# Altium integrated library NSC MiscPower.IntLib: 1417 symbols (part 32 of 39)
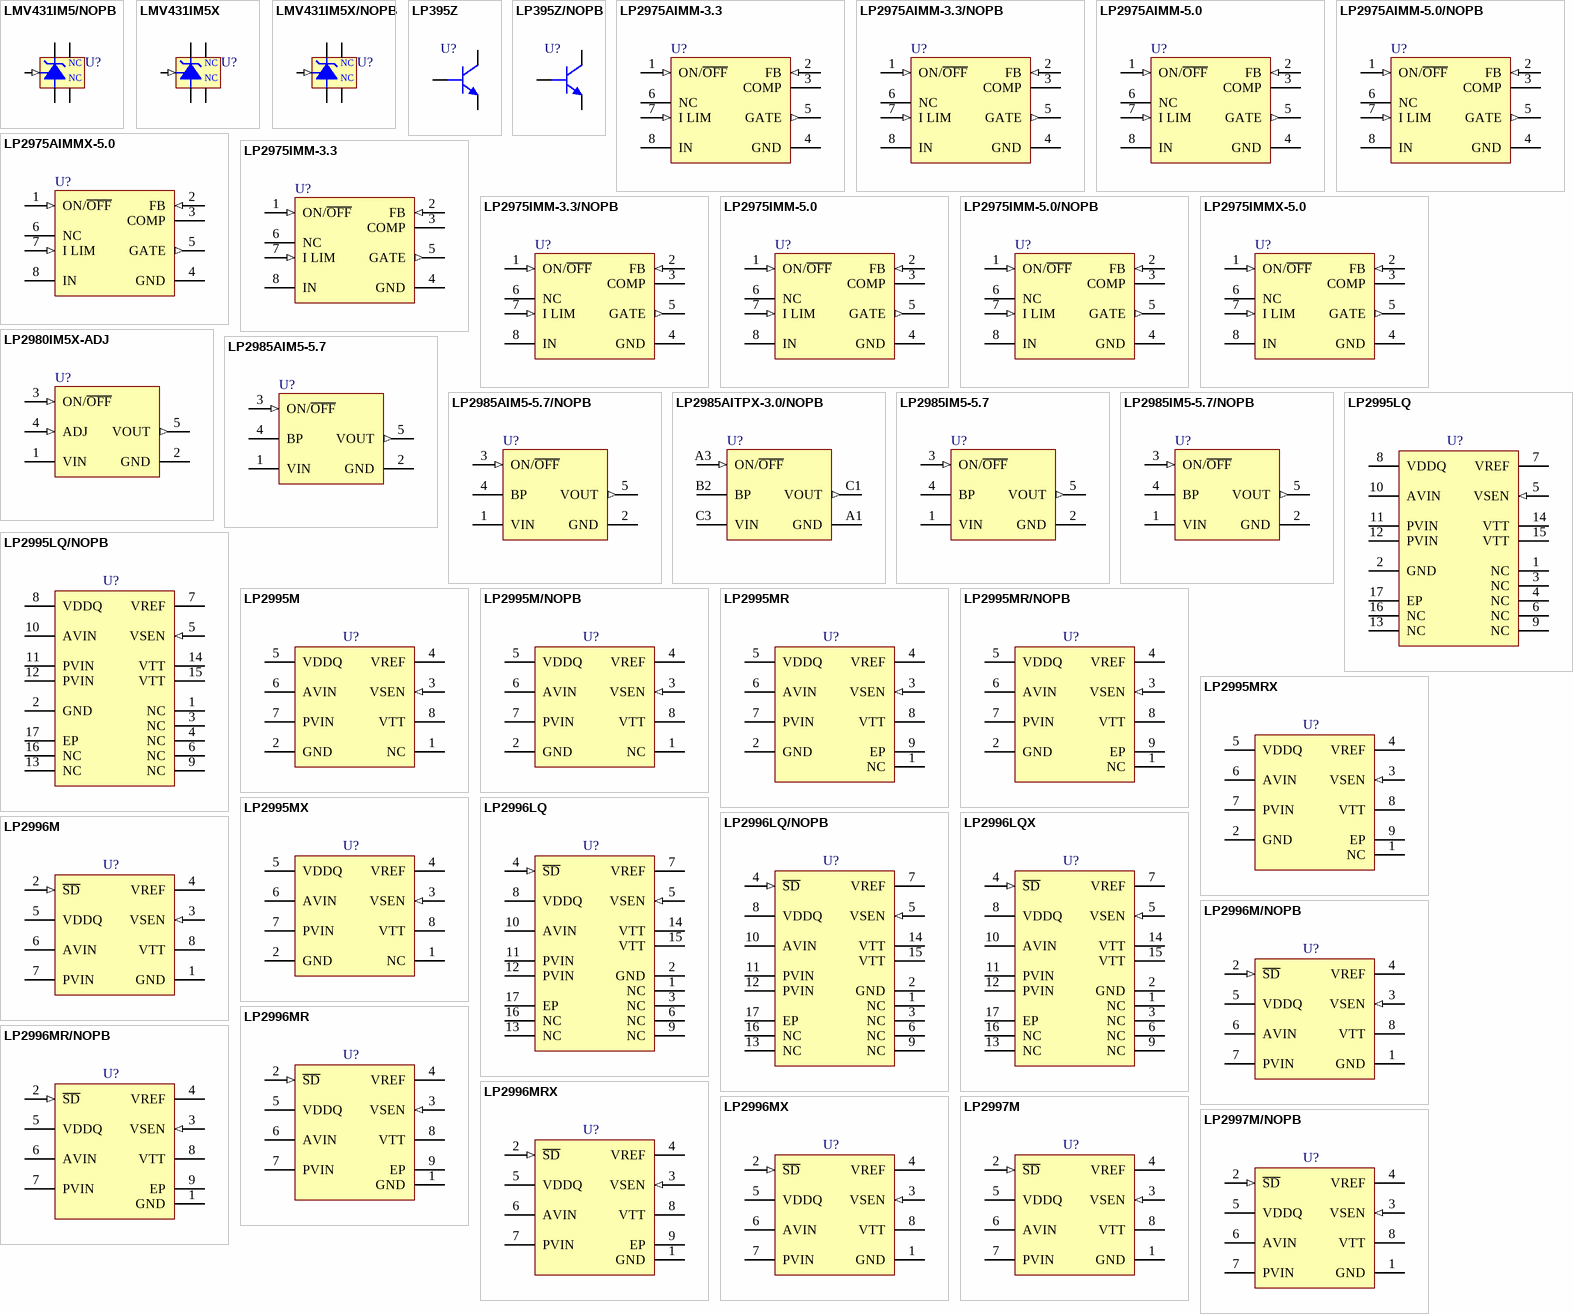
[diagram p82: symbols LMV431IM5/NOPB to LP2997M/NOPB]

## LP2996LQ
designator U?
DDR Termination Regulator, 16-pin LLP; PartNumber: LP2996LQ; Manufacturer: National Semiconductor; PackageTopMarking: NS*UZXYTT*L00006B; PowerWise: N; CompType: MiscPower; Published: 4-Dec-2008; DatasheetVersion: Apr-2009; PackageVersion: revA, Apr-2000; PackageReference: LQA16A; Publisher: Altium Limited; PackageDescription: LLP, Plastic, Quad, 4 x 4 x 0.75mm Body, 16 Lead, 0.5mm Pitch; Supplier 1: Farnell; Supplier Part Number 1: 1312853; RoHS: N; PinCount: 16; ComponentLink1Description: LP2996 Datasheet; ComponentLink1URL: http://www.national.com/ds/LP/LP2996.pdf; ComponentLink2Description: LP2996 Web Page; ComponentLink2URL: http://www.national.com/pf/LP/LP2996.html; ComponentLink3Description: LQA16A Package Page; ComponentLink3URL: http://www.national.com/packaging/folders/lqa16a.html
footprint LQA16A (QFN, 16-Leads, Body 4x4mm, Pitch 0.5mm, NSC Recommended)
pins: 1 NC, 2 GND (power), 3 NC, 4 ~{SD} (in), 5 VSEN (in), 6 NC, 7 VREF, 8 VDDQ (power), 9 NC, 10 AVIN (power), 11 PVIN (power), 12 PVIN (power), 13 NC, 14 VTT (power), 15 VTT (power), 16 NC, 17 EP (power)

## LP2996LQ/NOPB
designator U?
DDR Termination Regulator, 16-pin LLP, Pb-Free; PartNumber: LP2996LQ/NOPB; Manufacturer: National Semiconductor; PackageTopMarking: NS*UZXYTT*L00006B; PowerWise: N; CompType: MiscPower; Published: 1-Mar-2010; DatasheetVersion: Apr-2009; PackageVersion: revA, Apr-2000; PackageReference: LQA16A; Publisher: Altium Limited; PackageDescription: LLP, Plastic, Quad, 4 x 4 x 0.75mm Body, 16 Lead, 0.5mm Pitch; Supplier 1: Digi-Key; Supplier Part Number 1: LP2996LQTR-ND; Supplier 2: Digi-Key; Supplier Part Number 2: LP2996LQCT-ND; Supplier 3: Digi-Key; Supplier Part Number 3: LP2996LQDKR-ND; Supplier 4: Farnell; Supplier Part Number 4: 1559602; RoHS: Y; PinCount: 16; ComponentLink1Description: LP2996 Datasheet; ComponentLink1URL: http://www.national.com/ds/LP/LP2996.pdf; ComponentLink2Description: LP2996 Web Page; ComponentLink2URL: http://www.national.com/pf/LP/LP2996.html; ComponentLink3Description: LQA16A Package Page; ComponentLink3URL: http://www.national.com/packaging/folders/lqa16a.html
footprint LQA16A (QFN, 16-Leads, Body 4x4mm, Pitch 0.5mm, NSC Recommended)
pins: 1 NC, 2 GND (power), 3 NC, 4 ~{SD} (in), 5 VSEN (in), 6 NC, 7 VREF, 8 VDDQ (power), 9 NC, 10 AVIN (power), 11 PVIN (power), 12 PVIN (power), 13 NC, 14 VTT (power), 15 VTT (power), 16 NC, 17 EP (power)

## LP2996LQX
designator U?
DDR Termination Regulator, 16-pin LLP; PartNumber: LP2996LQX; Manufacturer: National Semiconductor; PackageTopMarking: NS*UZXYTT*L00006B; PowerWise: N; CompType: MiscPower; Published: 1-Mar-2010; DatasheetVersion: Apr-2009; PackageVersion: revA, Apr-2000; PackageReference: LQA16A; Publisher: Altium Limited; PackageDescription: LLP, Plastic, Quad, 4 x 4 x 0.75mm Body, 16 Lead, 0.5mm Pitch; RoHS: N; PinCount: 16; ComponentLink1Description: LP2996 Datasheet; ComponentLink1URL: http://www.national.com/ds/LP/LP2996.pdf; ComponentLink2Description: LP2996 Web Page; ComponentLink2URL: http://www.national.com/pf/LP/LP2996.html; ComponentLink3Description: LQA16A Package Page; ComponentLink3URL: http://www.national.com/packaging/folders/lqa16a.html
footprint LQA16A (QFN, 16-Leads, Body 4x4mm, Pitch 0.5mm, NSC Recommended)
pins: 1 NC, 2 GND (power), 3 NC, 4 ~{SD} (in), 5 VSEN (in), 6 NC, 7 VREF, 8 VDDQ (power), 9 NC, 10 AVIN (power), 11 PVIN (power), 12 PVIN (power), 13 NC, 14 VTT (power), 15 VTT (power), 16 NC, 17 EP (power)

## LP2996M
designator U?
DDR Termination Regulator, 8-pin Narrow SOIC; PartNumber: LP2996M; Manufacturer: National Semiconductor; PackageTopMarking: NSZXTT*2996M; PowerWise: N; CompType: MiscPower; Published: 4-Dec-2008; DatasheetVersion: Apr-2009; PackageVersion: revM, May-2009; PackageReference: M08A; Publisher: Altium Limited; PackageDescription: SOIC Narrow, 4.9 x 3.9 x 1.45mm, 8 Lead, 1.27mm Pitch; Supplier 1: Farnell; Supplier Part Number 1: 1286960; RoHS: N; PinCount: 8; Code_JEDEC: MS-012-AA; Code_IPC: SOIC127P600-8; ComponentLink1Description: LP2996 Datasheet; ComponentLink1URL: http://www.national.com/ds/LP/LP2996.pdf; ComponentLink2Description: LP2996 Web Page; ComponentLink2URL: http://www.national.com/pf/LP/LP2996.html; ComponentLink3Description: M08A Package Page; ComponentLink3URL: http://www.national.com/packaging/folders/m08a.html
footprint M08A_N (SOIC, 8-Leads, Body 4.9x3.9mm, Pitch 1.27mm, IPC Medium Density)
footprint M08A_L (SOIC, 8-Leads, Body 4.9x3.9mm, Pitch 1.27mm, IPC High Density)
footprint M08A_M (SOIC, 8-Leads, Body 4.9x3.9mm, Pitch 1.27mm, IPC Low Density)
pins: 1 GND (power), 2 ~{SD} (in), 3 VSEN (in), 4 VREF, 5 VDDQ (power), 6 AVIN (power), 7 PVIN (power), 8 VTT (power)

## LP2996M/NOPB
designator U?
DDR Termination Regulator, 8-pin Narrow SOIC, Pb-Free; PartNumber: LP2996M/NOPB; Manufacturer: National Semiconductor; PackageTopMarking: NSZXTT*2996M; PowerWise: N; CompType: MiscPower; Published: 1-Mar-2010; DatasheetVersion: Apr-2009; PackageVersion: revM, May-2009; PackageReference: M08A; Publisher: Altium Limited; PackageDescription: SOIC Narrow, 4.9 x 3.9 x 1.45mm, 8 Lead, 1.27mm Pitch; Supplier 1: Digi-Key; Supplier Part Number 1: LP2996M-ND; RoHS: Y; PinCount: 8; Code_JEDEC: MS-012-AA; Code_IPC: SOIC127P600-8; ComponentLink1Description: LP2996 Datasheet; ComponentLink1URL: http://www.national.com/ds/LP/LP2996.pdf; ComponentLink2Description: LP2996 Web Page; ComponentLink2URL: http://www.national.com/pf/LP/LP2996.html; ComponentLink3Description: M08A Package Page; ComponentLink3URL: http://www.national.com/packaging/folders/m08a.html
footprint M08A_N (SOIC, 8-Leads, Body 4.9x3.9mm, Pitch 1.27mm, IPC Medium Density)
footprint M08A_L (SOIC, 8-Leads, Body 4.9x3.9mm, Pitch 1.27mm, IPC High Density)
footprint M08A_M (SOIC, 8-Leads, Body 4.9x3.9mm, Pitch 1.27mm, IPC Low Density)
pins: 1 GND (power), 2 ~{SD} (in), 3 VSEN (in), 4 VREF, 5 VDDQ (power), 6 AVIN (power), 7 PVIN (power), 8 VTT (power)

## LP2996MR
designator U?
DDR Termination Regulator, 8-pin PSOP; PartNumber: LP2996MR; Manufacturer: National Semiconductor; PackageTopMarking: NSXYTT*LP2996; PowerWise: N; CompType: MiscPower; Published: 4-Dec-2008; DatasheetVersion: Apr-2009; PackageVersion: revD, Dec-2007; PackageReference: MRA08A; Publisher: Altium Limited; PackageDescription: Molded, PSOP .193 x .154 x .058in, 8 Lead, .050in Pitch; Supplier 1: Farnell; Supplier Part Number 1: 7611560; RoHS: N; PinCount: 8; Code_JEDEC: MS-012-AA; ComponentLink1Description: LP2996 Datasheet; ComponentLink1URL: http://www.national.com/ds/LP/LP2996.pdf; ComponentLink2Description: LP2996 Web Page; ComponentLink2URL: http://www.national.com/pf/LP/LP2996.html; ComponentLink3Description: MRA08A Package Page; ComponentLink3URL: http://www.national.com/packaging/folders/mra08a.html
footprint MRA08A_N (SOIC, 8-Leads, Body 4.9x3.9mm, Pitch 1.27mm, Exposed Pad, IPC Medium Density)
footprint MRA08A_L (SOIC, 8-Leads, Body 4.9x3.9mm, Pitch 1.27mm, Exposed Pad, IPC High Density)
footprint MRA08A_M (SOIC, 8-Leads, Body 4.9x3.9mm, Pitch 1.27mm, Exposed Pad, IPC Low Density)
pins: 1 GND (power), 2 ~{SD} (in), 3 VSEN (in), 4 VREF, 5 VDDQ (power), 6 AVIN (power), 7 PVIN (power), 8 VTT (power), 9 EP (power)

## LP2996MR/NOPB
designator U?
DDR Termination Regulator, 8-pin PSOP, Pb-Free; PartNumber: LP2996MR/NOPB; Manufacturer: National Semiconductor; PackageTopMarking: NSXYTT*LP2996; PowerWise: N; CompType: MiscPower; Published: 1-Mar-2010; DatasheetVersion: Apr-2009; PackageVersion: revD, Dec-2007; PackageReference: MRA08A; Publisher: Altium Limited; PackageDescription: Molded, PSOP .193 x .154 x .058in, 8 Lead, .050in Pitch; Supplier 1: Digi-Key; Supplier Part Number 1: LP2996MR-ND; RoHS: Y; PinCount: 8; Code_JEDEC: MS-012-AA; ComponentLink1Description: LP2996 Datasheet; ComponentLink1URL: http://www.national.com/ds/LP/LP2996.pdf; ComponentLink2Description: LP2996 Web Page; ComponentLink2URL: http://www.national.com/pf/LP/LP2996.html; ComponentLink3Description: MRA08A Package Page; ComponentLink3URL: http://www.national.com/packaging/folders/mra08a.html
footprint MRA08A_N (SOIC, 8-Leads, Body 4.9x3.9mm, Pitch 1.27mm, Exposed Pad, IPC Medium Density)
footprint MRA08A_L (SOIC, 8-Leads, Body 4.9x3.9mm, Pitch 1.27mm, Exposed Pad, IPC High Density)
footprint MRA08A_M (SOIC, 8-Leads, Body 4.9x3.9mm, Pitch 1.27mm, Exposed Pad, IPC Low Density)
pins: 1 GND (power), 2 ~{SD} (in), 3 VSEN (in), 4 VREF, 5 VDDQ (power), 6 AVIN (power), 7 PVIN (power), 8 VTT (power), 9 EP (power)

## LP2996MRX
designator U?
DDR Termination Regulator, 8-pin PSOP; PartNumber: LP2996MRX; Manufacturer: National Semiconductor; PackageTopMarking: NSXYTT*LP2996; PowerWise: N; CompType: MiscPower; Published: 1-Mar-2010; DatasheetVersion: Apr-2009; PackageVersion: revD, Dec-2007; PackageReference: MRA08A; Publisher: Altium Limited; PackageDescription: Molded, PSOP .193 x .154 x .058in, 8 Lead, .050in Pitch; RoHS: N; PinCount: 8; Code_JEDEC: MS-012-AA; ComponentLink1Description: LP2996 Datasheet; ComponentLink1URL: http://www.national.com/ds/LP/LP2996.pdf; ComponentLink2Description: LP2996 Web Page; ComponentLink2URL: http://www.national.com/pf/LP/LP2996.html; ComponentLink3Description: MRA08A Package Page; ComponentLink3URL: http://www.national.com/packaging/folders/mra08a.html
footprint MRA08A_N (SOIC, 8-Leads, Body 4.9x3.9mm, Pitch 1.27mm, Exposed Pad, IPC Medium Density)
footprint MRA08A_L (SOIC, 8-Leads, Body 4.9x3.9mm, Pitch 1.27mm, Exposed Pad, IPC High Density)
footprint MRA08A_M (SOIC, 8-Leads, Body 4.9x3.9mm, Pitch 1.27mm, Exposed Pad, IPC Low Density)
pins: 1 GND (power), 2 ~{SD} (in), 3 VSEN (in), 4 VREF, 5 VDDQ (power), 6 AVIN (power), 7 PVIN (power), 8 VTT (power), 9 EP (power)

## LP2996MX
designator U?
DDR Termination Regulator, 8-pin Narrow SOIC; PartNumber: LP2996MX; Manufacturer: National Semiconductor; PackageTopMarking: NSZXTT*2996M; PowerWise: N; CompType: MiscPower; Published: 1-Mar-2010; DatasheetVersion: Apr-2009; PackageVersion: revM, May-2009; PackageReference: M08A; Publisher: Altium Limited; PackageDescription: SOIC Narrow, 4.9 x 3.9 x 1.45mm, 8 Lead, 1.27mm Pitch; RoHS: N; PinCount: 8; Code_JEDEC: MS-012-AA; Code_IPC: SOIC127P600-8; ComponentLink1Description: LP2996 Datasheet; ComponentLink1URL: http://www.national.com/ds/LP/LP2996.pdf; ComponentLink2Description: LP2996 Web Page; ComponentLink2URL: http://www.national.com/pf/LP/LP2996.html; ComponentLink3Description: M08A Package Page; ComponentLink3URL: http://www.national.com/packaging/folders/m08a.html
footprint M08A_N (SOIC, 8-Leads, Body 4.9x3.9mm, Pitch 1.27mm, IPC Medium Density)
footprint M08A_L (SOIC, 8-Leads, Body 4.9x3.9mm, Pitch 1.27mm, IPC High Density)
footprint M08A_M (SOIC, 8-Leads, Body 4.9x3.9mm, Pitch 1.27mm, IPC Low Density)
pins: 1 GND (power), 2 ~{SD} (in), 3 VSEN (in), 4 VREF, 5 VDDQ (power), 6 AVIN (power), 7 PVIN (power), 8 VTT (power)

## LP2997M
designator U?
DDR-II Termination Regulator, 8-pin Narrow SOIC; PartNumber: LP2997M; Manufacturer: National Semiconductor; PackageTopMarking: NSZXTT*L2997*M; PowerWise: N; CompType: MiscPower; Published: 4-Dec-2008; DatasheetVersion: Jun-2006; PackageVersion: revM, May-2009; PackageReference: M08A; Publisher: Altium Limited; PackageDescription: SOIC Narrow, 4.9 x 3.9 x 1.45mm, 8 Lead, 1.27mm Pitch; Supplier 1: Farnell; Supplier Part Number 1: 1008283; RoHS: N; PinCount: 8; Code_JEDEC: MS-012-AA; Code_IPC: SOIC127P600-8; ComponentLink1Description: LP2997 Datasheet; ComponentLink1URL: http://www.national.com/ds/LP/LP2997.pdf; ComponentLink2Description: LP2997 Web Page; ComponentLink2URL: http://www.national.com/pf/LP/LP2997.html; ComponentLink3Description: M08A Package Page; ComponentLink3URL: http://www.national.com/packaging/folders/m08a.html
footprint M08A_N (SOIC, 8-Leads, Body 4.9x3.9mm, Pitch 1.27mm, IPC Medium Density)
footprint M08A_L (SOIC, 8-Leads, Body 4.9x3.9mm, Pitch 1.27mm, IPC High Density)
footprint M08A_M (SOIC, 8-Leads, Body 4.9x3.9mm, Pitch 1.27mm, IPC Low Density)
pins: 1 GND (power), 2 ~{SD} (in), 3 VSEN (in), 4 VREF, 5 VDDQ (power), 6 AVIN (power), 7 PVIN (power), 8 VTT (power)

## LP2997M/NOPB
designator U?
DDR-II Termination Regulator, 8-pin Narrow SOIC, Pb-Free; PartNumber: LP2997M/NOPB; Manufacturer: National Semiconductor; PackageTopMarking: NSZXTT*L2997*M; PowerWise: N; CompType: MiscPower; Published: 1-Mar-2010; DatasheetVersion: Jun-2006; PackageVersion: revM, May-2009; PackageReference: M08A; Publisher: Altium Limited; PackageDescription: SOIC Narrow, 4.9 x 3.9 x 1.45mm, 8 Lead, 1.27mm Pitch; Supplier 1: Digi-Key; Supplier Part Number 1: LP2997M-ND; Supplier 2: Farnell; Supplier Part Number 2: 1559603; RoHS: Y; PinCount: 8; Code_JEDEC: MS-012-AA; Code_IPC: SOIC127P600-8; ComponentLink1Description: LP2997 Datasheet; ComponentLink1URL: http://www.national.com/ds/LP/LP2997.pdf; ComponentLink2Description: LP2997 Web Page; ComponentLink2URL: http://www.national.com/pf/LP/LP2997.html; ComponentLink3Description: M08A Package Page; ComponentLink3URL: http://www.national.com/packaging/folders/m08a.html
footprint M08A_N (SOIC, 8-Leads, Body 4.9x3.9mm, Pitch 1.27mm, IPC Medium Density)
footprint M08A_L (SOIC, 8-Leads, Body 4.9x3.9mm, Pitch 1.27mm, IPC High Density)
footprint M08A_M (SOIC, 8-Leads, Body 4.9x3.9mm, Pitch 1.27mm, IPC Low Density)
pins: 1 GND (power), 2 ~{SD} (in), 3 VSEN (in), 4 VREF, 5 VDDQ (power), 6 AVIN (power), 7 PVIN (power), 8 VTT (power)

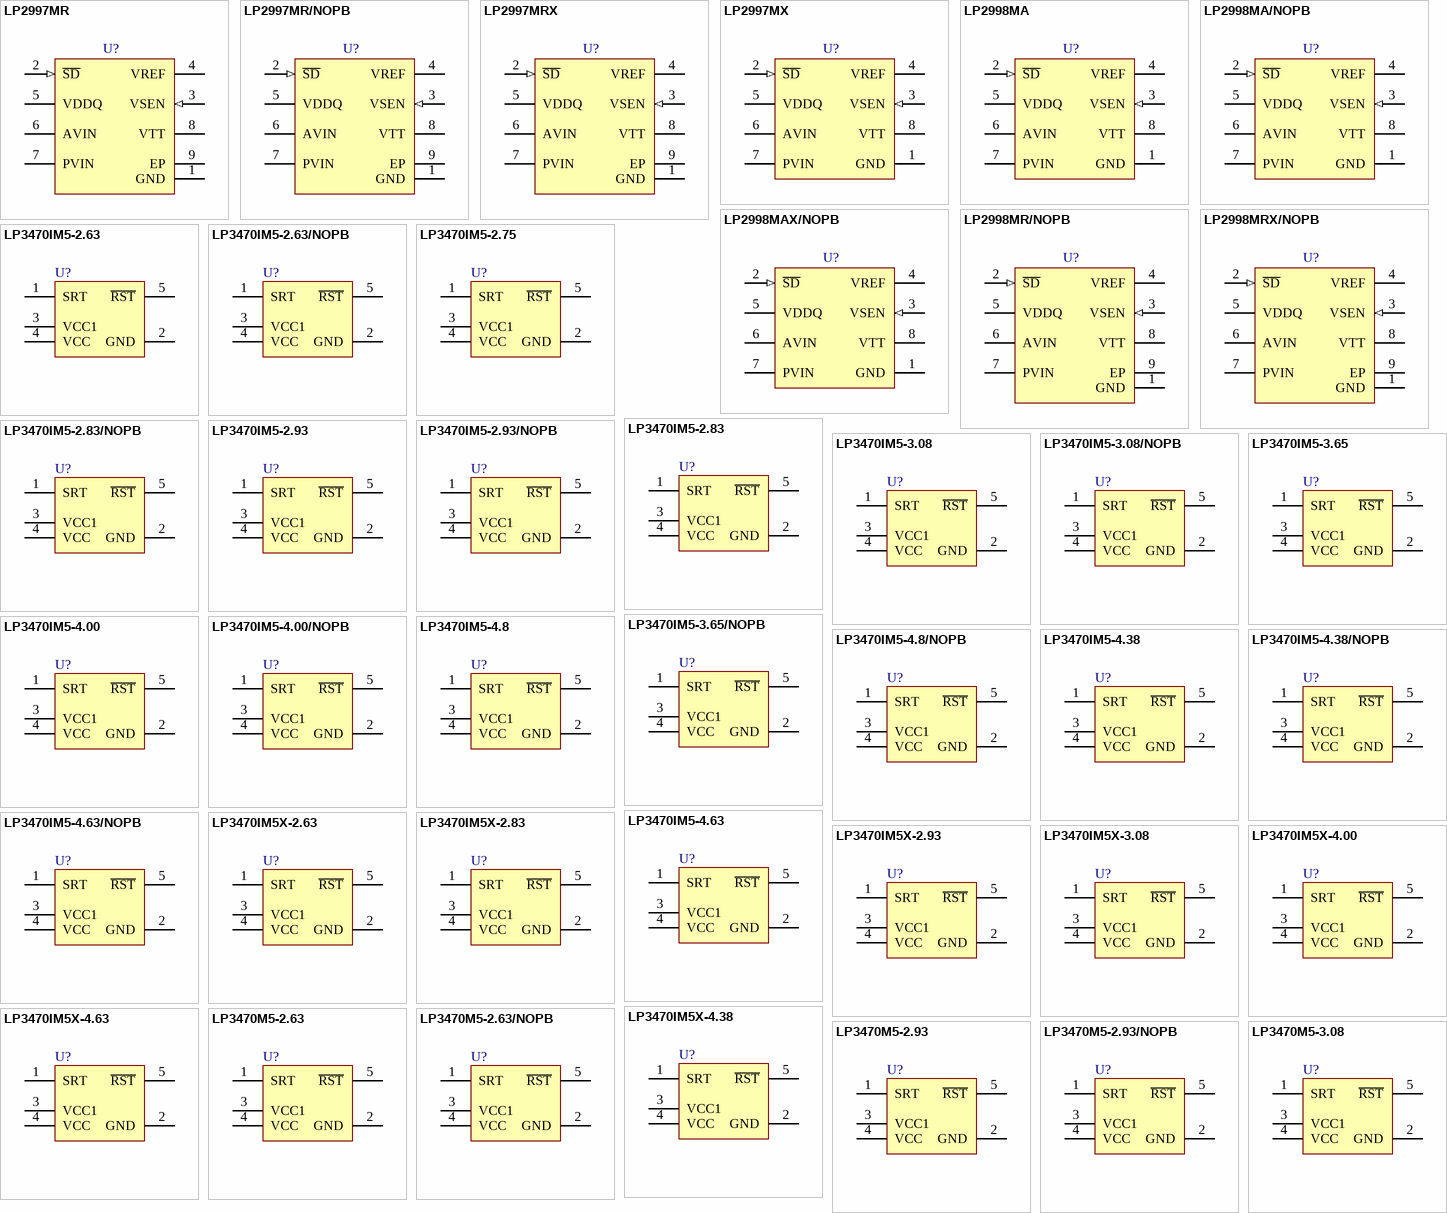
[diagram p35: symbols LP2997MR to LP3470M5-3.08]

## LP2997MR
designator U?
DDR-II Termination Regulator, 8-pin PSOP; PartNumber: LP2997MR; Manufacturer: National Semiconductor; PackageTopMarking: NSXYTT*L2997*MR; PowerWise: N; CompType: MiscPower; Published: 4-Dec-2008; DatasheetVersion: Jun-2006; PackageVersion: revD, Dec-2007; PackageReference: MRA08A; Publisher: Altium Limited; PackageDescription: Molded, PSOP .193 x .154 x .058in, 8 Lead, .050in Pitch; Supplier 1: Farnell; Supplier Part Number 1: 1286963; RoHS: N; PinCount: 8; Code_JEDEC: MS-012-AA; ComponentLink1Description: LP2997 Datasheet; ComponentLink1URL: http://www.national.com/ds/LP/LP2997.pdf; ComponentLink2Description: LP2997 Web Page; ComponentLink2URL: http://www.national.com/pf/LP/LP2997.html; ComponentLink3Description: MRA08A Package Page; ComponentLink3URL: http://www.national.com/packaging/folders/mra08a.html
footprint MRA08A_N (SOIC, 8-Leads, Body 4.9x3.9mm, Pitch 1.27mm, Exposed Pad, IPC Medium Density)
footprint MRA08A_L (SOIC, 8-Leads, Body 4.9x3.9mm, Pitch 1.27mm, Exposed Pad, IPC High Density)
footprint MRA08A_M (SOIC, 8-Leads, Body 4.9x3.9mm, Pitch 1.27mm, Exposed Pad, IPC Low Density)
pins: 1 GND (power), 2 ~{SD} (in), 3 VSEN (in), 4 VREF, 5 VDDQ (power), 6 AVIN (power), 7 PVIN (power), 8 VTT (power), 9 EP (power)

## LP2997MR/NOPB
designator U?
DDR-II Termination Regulator, 8-pin PSOP, Pb-Free; PartNumber: LP2997MR/NOPB; Manufacturer: National Semiconductor; PackageTopMarking: NSXYTT*L2997*MR; PowerWise: N; CompType: MiscPower; Published: 1-Mar-2010; DatasheetVersion: Jun-2006; PackageVersion: revD, Dec-2007; PackageReference: MRA08A; Publisher: Altium Limited; PackageDescription: Molded, PSOP .193 x .154 x .058in, 8 Lead, .050in Pitch; Supplier 1: Digi-Key; Supplier Part Number 1: LP2997MR-ND; RoHS: Y; PinCount: 8; Code_JEDEC: MS-012-AA; ComponentLink1Description: LP2997 Datasheet; ComponentLink1URL: http://www.national.com/ds/LP/LP2997.pdf; ComponentLink2Description: LP2997 Web Page; ComponentLink2URL: http://www.national.com/pf/LP/LP2997.html; ComponentLink3Description: MRA08A Package Page; ComponentLink3URL: http://www.national.com/packaging/folders/mra08a.html
footprint MRA08A_N (SOIC, 8-Leads, Body 4.9x3.9mm, Pitch 1.27mm, Exposed Pad, IPC Medium Density)
footprint MRA08A_L (SOIC, 8-Leads, Body 4.9x3.9mm, Pitch 1.27mm, Exposed Pad, IPC High Density)
footprint MRA08A_M (SOIC, 8-Leads, Body 4.9x3.9mm, Pitch 1.27mm, Exposed Pad, IPC Low Density)
pins: 1 GND (power), 2 ~{SD} (in), 3 VSEN (in), 4 VREF, 5 VDDQ (power), 6 AVIN (power), 7 PVIN (power), 8 VTT (power), 9 EP (power)

## LP2997MRX
designator U?
DDR-II Termination Regulator, 8-pin PSOP; PartNumber: LP2997MRX; Manufacturer: National Semiconductor; PackageTopMarking: NSXYTT*L2997*MR; PowerWise: N; CompType: MiscPower; Published: 1-Mar-2010; DatasheetVersion: Jun-2006; PackageVersion: revD, Dec-2007; PackageReference: MRA08A; Publisher: Altium Limited; PackageDescription: Molded, PSOP .193 x .154 x .058in, 8 Lead, .050in Pitch; RoHS: N; PinCount: 8; Code_JEDEC: MS-012-AA; ComponentLink1Description: LP2997 Datasheet; ComponentLink1URL: http://www.national.com/ds/LP/LP2997.pdf; ComponentLink2Description: LP2997 Web Page; ComponentLink2URL: http://www.national.com/pf/LP/LP2997.html; ComponentLink3Description: MRA08A Package Page; ComponentLink3URL: http://www.national.com/packaging/folders/mra08a.html
footprint MRA08A_N (SOIC, 8-Leads, Body 4.9x3.9mm, Pitch 1.27mm, Exposed Pad, IPC Medium Density)
footprint MRA08A_L (SOIC, 8-Leads, Body 4.9x3.9mm, Pitch 1.27mm, Exposed Pad, IPC High Density)
footprint MRA08A_M (SOIC, 8-Leads, Body 4.9x3.9mm, Pitch 1.27mm, Exposed Pad, IPC Low Density)
pins: 1 GND (power), 2 ~{SD} (in), 3 VSEN (in), 4 VREF, 5 VDDQ (power), 6 AVIN (power), 7 PVIN (power), 8 VTT (power), 9 EP (power)

## LP2997MX
designator U?
DDR-II Termination Regulator, 8-pin Narrow SOIC; PartNumber: LP2997MX; Manufacturer: National Semiconductor; PackageTopMarking: NSZXTT*L2997*M; PowerWise: N; CompType: MiscPower; Published: 1-Mar-2010; DatasheetVersion: Jun-2006; PackageVersion: revM, May-2009; PackageReference: M08A; Publisher: Altium Limited; PackageDescription: SOIC Narrow, 4.9 x 3.9 x 1.45mm, 8 Lead, 1.27mm Pitch; RoHS: N; PinCount: 8; Code_JEDEC: MS-012-AA; Code_IPC: SOIC127P600-8; ComponentLink1Description: LP2997 Datasheet; ComponentLink1URL: http://www.national.com/ds/LP/LP2997.pdf; ComponentLink2Description: LP2997 Web Page; ComponentLink2URL: http://www.national.com/pf/LP/LP2997.html; ComponentLink3Description: M08A Package Page; ComponentLink3URL: http://www.national.com/packaging/folders/m08a.html
footprint M08A_N (SOIC, 8-Leads, Body 4.9x3.9mm, Pitch 1.27mm, IPC Medium Density)
footprint M08A_L (SOIC, 8-Leads, Body 4.9x3.9mm, Pitch 1.27mm, IPC High Density)
footprint M08A_M (SOIC, 8-Leads, Body 4.9x3.9mm, Pitch 1.27mm, IPC Low Density)
pins: 1 GND (power), 2 ~{SD} (in), 3 VSEN (in), 4 VREF, 5 VDDQ (power), 6 AVIN (power), 7 PVIN (power), 8 VTT (power)

## LP2998MA
designator U?
DDR-II and DDR-I Termination Regulator, 8-pin Narrow SOIC; PartNumber: LP2998MA; Manufacturer: National Semiconductor; PackageTopMarking: NSZXTT*LP2998*MA; PowerWise: N; CompType: MiscPower; Published: 4-Dec-2008; DatasheetVersion: Dec-2009; PackageVersion: revM, May-2009; PackageReference: M08A; Publisher: Altium Limited; PackageDescription: SOIC Narrow, 4.9 x 3.9 x 1.45mm, 8 Lead, 1.27mm Pitch; Supplier 1: Farnell; Supplier Part Number 1: 1542532; RoHS: Y; PinCount: 8; Code_JEDEC: MS-012-AA; Code_IPC: SOIC127P600-8; ComponentLink1Description: LP2998 Datasheet; ComponentLink1URL: http://www.national.com/ds/LP/LP2998.pdf; ComponentLink2Description: LP2998 Web Page; ComponentLink2URL: http://www.national.com/pf/LP/LP2998.html; ComponentLink3Description: M08A Package Page; ComponentLink3URL: http://www.national.com/packaging/folders/m08a.html
footprint M08A_N (SOIC, 8-Leads, Body 4.9x3.9mm, Pitch 1.27mm, IPC Medium Density)
footprint M08A_L (SOIC, 8-Leads, Body 4.9x3.9mm, Pitch 1.27mm, IPC High Density)
footprint M08A_M (SOIC, 8-Leads, Body 4.9x3.9mm, Pitch 1.27mm, IPC Low Density)
pins: 1 GND (power), 2 ~{SD} (in), 3 VSEN (in), 4 VREF, 5 VDDQ (power), 6 AVIN (power), 7 PVIN (power), 8 VTT (power)

## LP2998MA/NOPB
designator U?
DDR-I and DDR-II Termination Regulator, 8-pin Narrow SOIC, Pb-Free; PartNumber: LP2998MA/NOPB; Manufacturer: National Semiconductor; PackageTopMarking: NSZXTT*LP2998*MA; PowerWise: N; CompType: MiscPower; Published: 1-Mar-2010; DatasheetVersion: Dec-2009; PackageVersion: revM, May-2009; PackageReference: M08A; Publisher: Altium Limited; PackageDescription: SOIC Narrow, 4.9 x 3.9 x 1.45mm, 8 Lead, 1.27mm Pitch; Supplier 1: Digi-Key; Supplier Part Number 1: LP2998MA-ND; Supplier 2: Farnell; Supplier Part Number 2: 1545595; RoHS: Y; PinCount: 8; Code_JEDEC: MS-012-AA; Code_IPC: SOIC127P600-8; ComponentLink1Description: LP2998 Datasheet; ComponentLink1URL: http://www.national.com/ds/LP/LP2998.pdf; ComponentLink2Description: LP2998 Web Page; ComponentLink2URL: http://www.national.com/pf/LP/LP2998.html; ComponentLink3Description: M08A Package Page; ComponentLink3URL: http://www.national.com/packaging/folders/m08a.html
footprint M08A_N (SOIC, 8-Leads, Body 4.9x3.9mm, Pitch 1.27mm, IPC Medium Density)
footprint M08A_L (SOIC, 8-Leads, Body 4.9x3.9mm, Pitch 1.27mm, IPC High Density)
footprint M08A_M (SOIC, 8-Leads, Body 4.9x3.9mm, Pitch 1.27mm, IPC Low Density)
pins: 1 GND (power), 2 ~{SD} (in), 3 VSEN (in), 4 VREF, 5 VDDQ (power), 6 AVIN (power), 7 PVIN (power), 8 VTT (power)

## LP2998MAX/NOPB
designator U?
DDR-I and DDR-II Termination Regulator, 8-pin Narrow SOIC, Pb-Free; PartNumber: LP2998MAX/NOPB; Manufacturer: National Semiconductor; PackageTopMarking: NSZXTT*LP2998*MA; PowerWise: N; CompType: MiscPower; Published: 1-Mar-2010; DatasheetVersion: Dec-2009; PackageVersion: revM, May-2009; PackageReference: M08A; Publisher: Altium Limited; PackageDescription: SOIC Narrow, 4.9 x 3.9 x 1.45mm, 8 Lead, 1.27mm Pitch; Supplier 1: Digi-Key; Supplier Part Number 1: LP2998MAX-ND; RoHS: Y; PinCount: 8; Code_JEDEC: MS-012-AA; Code_IPC: SOIC127P600-8; ComponentLink1Description: LP2998 Datasheet; ComponentLink1URL: http://www.national.com/ds/LP/LP2998.pdf; ComponentLink2Description: LP2998 Web Page; ComponentLink2URL: http://www.national.com/pf/LP/LP2998.html; ComponentLink3Description: M08A Package Page; ComponentLink3URL: http://www.national.com/packaging/folders/m08a.html
footprint M08A_N (SOIC, 8-Leads, Body 4.9x3.9mm, Pitch 1.27mm, IPC Medium Density)
footprint M08A_L (SOIC, 8-Leads, Body 4.9x3.9mm, Pitch 1.27mm, IPC High Density)
footprint M08A_M (SOIC, 8-Leads, Body 4.9x3.9mm, Pitch 1.27mm, IPC Low Density)
pins: 1 GND (power), 2 ~{SD} (in), 3 VSEN (in), 4 VREF, 5 VDDQ (power), 6 AVIN (power), 7 PVIN (power), 8 VTT (power)

## LP2998MR/NOPB
designator U?
DDR-I and DDR-II Termination Regulator, 8-pin PSOP, Pb-Free; PartNumber: LP2998MR/NOPB; Manufacturer: National Semiconductor; PackageTopMarking: NSXYTT*LP2998*MR; PowerWise: N; CompType: MiscPower; Published: 1-Mar-2010; DatasheetVersion: Dec-2009; PackageVersion: revD, Dec-2007; PackageReference: MRA08A; Publisher: Altium Limited; PackageDescription: Molded, PSOP .193 x .154 x .058in, 8 Lead, .050in Pitch; Supplier 1: Digi-Key; Supplier Part Number 1: LP2998MR-ND; Supplier 2: Farnell; Supplier Part Number 2: 1542533; RoHS: Y; PinCount: 8; Code_JEDEC: MS-012-AA; ComponentLink1Description: LP2998 Datasheet; ComponentLink1URL: http://www.national.com/ds/LP/LP2998.pdf; ComponentLink2Description: LP2998 Web Page; ComponentLink2URL: http://www.national.com/pf/LP/LP2998.html; ComponentLink3Description: MRA08A Package Page; ComponentLink3URL: http://www.national.com/packaging/folders/mra08a.html
footprint MRA08A_N (SOIC, 8-Leads, Body 4.9x3.9mm, Pitch 1.27mm, Exposed Pad, IPC Medium Density)
footprint MRA08A_L (SOIC, 8-Leads, Body 4.9x3.9mm, Pitch 1.27mm, Exposed Pad, IPC High Density)
footprint MRA08A_M (SOIC, 8-Leads, Body 4.9x3.9mm, Pitch 1.27mm, Exposed Pad, IPC Low Density)
pins: 1 GND (power), 2 ~{SD} (in), 3 VSEN (in), 4 VREF, 5 VDDQ (power), 6 AVIN (power), 7 PVIN (power), 8 VTT (power), 9 EP (power)

## LP2998MRX/NOPB
designator U?
DDR-I and DDR-II Termination Regulator, 8-pin PSOP, Pb-Free; PartNumber: LP2998MRX/NOPB; Manufacturer: National Semiconductor; PackageTopMarking: NSXYTT*LP2998*MR; PowerWise: N; CompType: MiscPower; Published: 1-Mar-2010; DatasheetVersion: Dec-2009; PackageVersion: revD, Dec-2007; PackageReference: MRA08A; Publisher: Altium Limited; PackageDescription: Molded, PSOP .193 x .154 x .058in, 8 Lead, .050in Pitch; Supplier 1: Digi-Key; Supplier Part Number 1: LP2998MRX-ND; RoHS: Y; PinCount: 8; Code_JEDEC: MS-012-AA; ComponentLink1Description: LP2998 Datasheet; ComponentLink1URL: http://www.national.com/ds/LP/LP2998.pdf; ComponentLink2Description: LP2998 Web Page; ComponentLink2URL: http://www.national.com/pf/LP/LP2998.html; ComponentLink3Description: MRA08A Package Page; ComponentLink3URL: http://www.national.com/packaging/folders/mra08a.html
footprint MRA08A_N (SOIC, 8-Leads, Body 4.9x3.9mm, Pitch 1.27mm, Exposed Pad, IPC Medium Density)
footprint MRA08A_L (SOIC, 8-Leads, Body 4.9x3.9mm, Pitch 1.27mm, Exposed Pad, IPC High Density)
footprint MRA08A_M (SOIC, 8-Leads, Body 4.9x3.9mm, Pitch 1.27mm, Exposed Pad, IPC Low Density)
pins: 1 GND (power), 2 ~{SD} (in), 3 VSEN (in), 4 VREF, 5 VDDQ (power), 6 AVIN (power), 7 PVIN (power), 8 VTT (power), 9 EP (power)

## LP3470IM5-2.63
designator U?
Tiny Power On Reset Circuit, 5-pin SOT-23; PartNumber: LP3470IM5-2.63; Manufacturer: National Semiconductor; PackageTopMarking: D25C*XTT; PowerWise: N; CompType: MiscPower; Published: 4-Dec-2008; DatasheetVersion: Sep-2009; PackageVersion: revD, Aug-2008; PackageReference: MF05A; Publisher: Altium Limited; PackageDescription: Molded SOT-23, .115 x .063 x .040 in Body, 5 Lead, .0375 in Pitch; RoHS: N; PinCount: 5; ComponentLink1Description: LP3470 Datasheet; ComponentLink1URL: http://www.national.com/ds/LP/LP3470.pdf; ComponentLink2Description: LP3470 Web Page; ComponentLink2URL: http://www.national.com/pf/LP/LP3470.html; ComponentLink3Description: MF05A Package Page; ComponentLink3URL: http://www.national.com/packaging/folders/mf05a.html
footprint MF05A_N (SOT23, 5-Leads, Body 2.9x1.6mm, Pitch 0.95mm, Lead Span 2.8mm, IPC Medium Density)
footprint MF05A_L (SOT23, 5-Leads, Body 2.9x1.6mm, Pitch 0.95mm, Lead Span 2.8mm, IPC High Density)
footprint MF05A_M (SOT23, 5-Leads, Body 2.9x1.6mm, Pitch 0.95mm, Lead Span 2.8mm, IPC Low Density)
pins: 1 SRT, 2 GND (power), 3 VCC1 (power), 4 VCC (power), 5 ~{RST} (oc)

## LP3470IM5-2.63/NOPB
designator U?
Tiny Power On Reset Circuit, 5-pin SOT-23, Pb-Free; PartNumber: LP3470IM5-2.63/NOPB; Manufacturer: National Semiconductor; PackageTopMarking: D25C*XTT; PowerWise: N; CompType: MiscPower; Published: 1-Mar-2010; DatasheetVersion: Sep-2009; PackageVersion: revD, Aug-2008; PackageReference: MF05A; Publisher: Altium Limited; PackageDescription: Molded SOT-23, .115 x .063 x .040 in Body, 5 Lead, .0375 in Pitch; Supplier 1: Digi-Key; Supplier Part Number 1: LP3470IM5-2.63TR-ND; Supplier 2: Digi-Key; Supplier Part Number 2: LP3470IM5-2.63CT-ND; Supplier 3: Digi-Key; Supplier Part Number 3: LP3470IM5-2.63DKR-ND; Supplier 4: Farnell; Supplier Part Number 4: 1685699; RoHS: Y; PinCount: 5; ComponentLink1Description: LP3470 Datasheet; ComponentLink1URL: http://www.national.com/ds/LP/LP3470.pdf; ComponentLink2Description: LP3470 Web Page; ComponentLink2URL: http://www.national.com/pf/LP/LP3470.html; ComponentLink3Description: MF05A Package Page; ComponentLink3URL: http://www.national.com/packaging/folders/mf05a.html
footprint MF05A_N (SOT23, 5-Leads, Body 2.9x1.6mm, Pitch 0.95mm, Lead Span 2.8mm, IPC Medium Density)
footprint MF05A_L (SOT23, 5-Leads, Body 2.9x1.6mm, Pitch 0.95mm, Lead Span 2.8mm, IPC High Density)
footprint MF05A_M (SOT23, 5-Leads, Body 2.9x1.6mm, Pitch 0.95mm, Lead Span 2.8mm, IPC Low Density)
pins: 1 SRT, 2 GND (power), 3 VCC1 (power), 4 VCC (power), 5 ~{RST} (oc)

## LP3470IM5-2.75
designator U?
Tiny Power On Reset Circuit, 5-pin SOT-23; PartNumber: LP3470IM5-2.75; Manufacturer: National Semiconductor; PackageTopMarking: D38C*XTT; PowerWise: N; CompType: MiscPower; Published: 4-Dec-2008; DatasheetVersion: Sep-2009; PackageVersion: revD, Aug-2008; PackageReference: MF05A; Publisher: Altium Limited; PackageDescription: Molded SOT-23, .115 x .063 x .040 in Body, 5 Lead, .0375 in Pitch; RoHS: N; PinCount: 5; ComponentLink1Description: LP3470 Datasheet; ComponentLink1URL: http://www.national.com/ds/LP/LP3470.pdf; ComponentLink2Description: LP3470 Web Page; ComponentLink2URL: http://www.national.com/pf/LP/LP3470.html; ComponentLink3Description: MF05A Package Page; ComponentLink3URL: http://www.national.com/packaging/folders/mf05a.html
footprint MF05A_N (SOT23, 5-Leads, Body 2.9x1.6mm, Pitch 0.95mm, Lead Span 2.8mm, IPC Medium Density)
footprint MF05A_L (SOT23, 5-Leads, Body 2.9x1.6mm, Pitch 0.95mm, Lead Span 2.8mm, IPC High Density)
footprint MF05A_M (SOT23, 5-Leads, Body 2.9x1.6mm, Pitch 0.95mm, Lead Span 2.8mm, IPC Low Density)
pins: 1 SRT, 2 GND (power), 3 VCC1 (power), 4 VCC (power), 5 ~{RST} (oc)

## LP3470IM5-2.83
designator U?
Tiny Power On Reset Circuit, 5-pin SOT-23; PartNumber: LP3470IM5-2.83; Manufacturer: National Semiconductor; PackageTopMarking: D39C*XTT; PowerWise: N; CompType: MiscPower; Published: 4-Dec-2008; DatasheetVersion: Sep-2009; PackageVersion: revD, Aug-2008; PackageReference: MF05A; Publisher: Altium Limited; PackageDescription: Molded SOT-23, .115 x .063 x .040 in Body, 5 Lead, .0375 in Pitch; RoHS: N; PinCount: 5; ComponentLink1Description: LP3470 Datasheet; ComponentLink1URL: http://www.national.com/ds/LP/LP3470.pdf; ComponentLink2Description: LP3470 Web Page; ComponentLink2URL: http://www.national.com/pf/LP/LP3470.html; ComponentLink3Description: MF05A Package Page; ComponentLink3URL: http://www.national.com/packaging/folders/mf05a.html
footprint MF05A_N (SOT23, 5-Leads, Body 2.9x1.6mm, Pitch 0.95mm, Lead Span 2.8mm, IPC Medium Density)
footprint MF05A_L (SOT23, 5-Leads, Body 2.9x1.6mm, Pitch 0.95mm, Lead Span 2.8mm, IPC High Density)
footprint MF05A_M (SOT23, 5-Leads, Body 2.9x1.6mm, Pitch 0.95mm, Lead Span 2.8mm, IPC Low Density)
pins: 1 SRT, 2 GND (power), 3 VCC1 (power), 4 VCC (power), 5 ~{RST} (oc)

## LP3470IM5-2.83/NOPB
designator U?
Tiny Power On Reset Circuit, 5-pin SOT-23, Pb-Free; PartNumber: LP3470IM5-2.83/NOPB; Manufacturer: National Semiconductor; PackageTopMarking: D39C*XTT; PowerWise: N; CompType: MiscPower; Published: 1-Mar-2010; DatasheetVersion: Sep-2009; PackageVersion: revD, Aug-2008; PackageReference: MF05A; Publisher: Altium Limited; PackageDescription: Molded SOT-23, .115 x .063 x .040 in Body, 5 Lead, .0375 in Pitch; Supplier 1: Digi-Key; Supplier Part Number 1: LP3470IM5-2.83-ND; RoHS: Y; PinCount: 5; ComponentLink1Description: LP3470 Datasheet; ComponentLink1URL: http://www.national.com/ds/LP/LP3470.pdf; ComponentLink2Description: LP3470 Web Page; ComponentLink2URL: http://www.national.com/pf/LP/LP3470.html; ComponentLink3Description: MF05A Package Page; ComponentLink3URL: http://www.national.com/packaging/folders/mf05a.html
footprint MF05A_N (SOT23, 5-Leads, Body 2.9x1.6mm, Pitch 0.95mm, Lead Span 2.8mm, IPC Medium Density)
footprint MF05A_L (SOT23, 5-Leads, Body 2.9x1.6mm, Pitch 0.95mm, Lead Span 2.8mm, IPC High Density)
footprint MF05A_M (SOT23, 5-Leads, Body 2.9x1.6mm, Pitch 0.95mm, Lead Span 2.8mm, IPC Low Density)
pins: 1 SRT, 2 GND (power), 3 VCC1 (power), 4 VCC (power), 5 ~{RST} (oc)

## LP3470IM5-2.93
designator U?
Tiny Power On Reset Circuit, 5-pin SOT-23; PartNumber: LP3470IM5-2.93; Manufacturer: National Semiconductor; PackageTopMarking: D26C*XTT; PowerWise: N; CompType: MiscPower; Published: 4-Dec-2008; DatasheetVersion: Sep-2009; PackageVersion: revD, Aug-2008; PackageReference: MF05A; Publisher: Altium Limited; PackageDescription: Molded SOT-23, .115 x .063 x .040 in Body, 5 Lead, .0375 in Pitch; Supplier 1: Digi-Key; Supplier Part Number 1: LP3470IM5-2.93TR-ND; Supplier 2: Digi-Key; Supplier Part Number 2: LP3470IM5-2.93CT-ND; Supplier 3: Farnell; Supplier Part Number 3: 4467292; RoHS: N; PinCount: 5; ComponentLink1Description: LP3470 Datasheet; ComponentLink1URL: http://www.national.com/ds/LP/LP3470.pdf; ComponentLink2Description: LP3470 Web Page; ComponentLink2URL: http://www.national.com/pf/LP/LP3470.html; ComponentLink3Description: MF05A Package Page; ComponentLink3URL: http://www.national.com/packaging/folders/mf05a.html
footprint MF05A_N (SOT23, 5-Leads, Body 2.9x1.6mm, Pitch 0.95mm, Lead Span 2.8mm, IPC Medium Density)
footprint MF05A_L (SOT23, 5-Leads, Body 2.9x1.6mm, Pitch 0.95mm, Lead Span 2.8mm, IPC High Density)
footprint MF05A_M (SOT23, 5-Leads, Body 2.9x1.6mm, Pitch 0.95mm, Lead Span 2.8mm, IPC Low Density)
pins: 1 SRT, 2 GND (power), 3 VCC1 (power), 4 VCC (power), 5 ~{RST} (oc)

## LP3470IM5-2.93/NOPB
designator U?
Tiny Power On Reset Circuit, 5-pin SOT-23, Pb-Free; PartNumber: LP3470IM5-2.93/NOPB; Manufacturer: National Semiconductor; PackageTopMarking: D26C*XTT; PowerWise: N; CompType: MiscPower; Published: 1-Mar-2010; DatasheetVersion: Sep-2009; PackageVersion: revD, Aug-2008; PackageReference: MF05A; Publisher: Altium Limited; PackageDescription: Molded SOT-23, .115 x .063 x .040 in Body, 5 Lead, .0375 in Pitch; Supplier 1: Digi-Key; Supplier Part Number 1: LP3470IM5-2.93/NOPBTR-ND; Supplier 2: Digi-Key; Supplier Part Number 2: LP3470IM5-2.93/NOPBCT-ND; Supplier 3: Digi-Key; Supplier Part Number 3: LP3470IM5-2.93/NOPBDKR-ND; Supplier 4: Farnell; Supplier Part Number 4: 1694564; RoHS: Y; PinCount: 5; ComponentLink1Description: LP3470 Datasheet; ComponentLink1URL: http://www.national.com/ds/LP/LP3470.pdf; ComponentLink2Description: LP3470 Web Page; ComponentLink2URL: http://www.national.com/pf/LP/LP3470.html; ComponentLink3Description: MF05A Package Page; ComponentLink3URL: http://www.national.com/packaging/folders/mf05a.html
footprint MF05A_N (SOT23, 5-Leads, Body 2.9x1.6mm, Pitch 0.95mm, Lead Span 2.8mm, IPC Medium Density)
footprint MF05A_L (SOT23, 5-Leads, Body 2.9x1.6mm, Pitch 0.95mm, Lead Span 2.8mm, IPC High Density)
footprint MF05A_M (SOT23, 5-Leads, Body 2.9x1.6mm, Pitch 0.95mm, Lead Span 2.8mm, IPC Low Density)
pins: 1 SRT, 2 GND (power), 3 VCC1 (power), 4 VCC (power), 5 ~{RST} (oc)

## LP3470IM5-3.08
designator U?
Tiny Power On Reset Circuit, 5-pin SOT-23; PartNumber: LP3470IM5-3.08; Manufacturer: National Semiconductor; PackageTopMarking: D28C*XTT; PowerWise: N; CompType: MiscPower; Published: 4-Dec-2008; DatasheetVersion: Sep-2009; PackageVersion: revD, Aug-2008; PackageReference: MF05A; Publisher: Altium Limited; PackageDescription: Molded SOT-23, .115 x .063 x .040 in Body, 5 Lead, .0375 in Pitch; RoHS: N; PinCount: 5; ComponentLink1Description: LP3470 Datasheet; ComponentLink1URL: http://www.national.com/ds/LP/LP3470.pdf; ComponentLink2Description: LP3470 Web Page; ComponentLink2URL: http://www.national.com/pf/LP/LP3470.html; ComponentLink3Description: MF05A Package Page; ComponentLink3URL: http://www.national.com/packaging/folders/mf05a.html
footprint MF05A_N (SOT23, 5-Leads, Body 2.9x1.6mm, Pitch 0.95mm, Lead Span 2.8mm, IPC Medium Density)
footprint MF05A_L (SOT23, 5-Leads, Body 2.9x1.6mm, Pitch 0.95mm, Lead Span 2.8mm, IPC High Density)
footprint MF05A_M (SOT23, 5-Leads, Body 2.9x1.6mm, Pitch 0.95mm, Lead Span 2.8mm, IPC Low Density)
pins: 1 SRT, 2 GND (power), 3 VCC1 (power), 4 VCC (power), 5 ~{RST} (oc)

## LP3470IM5-3.08/NOPB
designator U?
Tiny Power On Reset Circuit, 5-pin SOT-23, Pb-Free; PartNumber: LP3470IM5-3.08/NOPB; Manufacturer: National Semiconductor; PackageTopMarking: D28C*XTT; PowerWise: N; CompType: MiscPower; Published: 1-Mar-2010; DatasheetVersion: Sep-2009; PackageVersion: revD, Aug-2008; PackageReference: MF05A; Publisher: Altium Limited; PackageDescription: Molded SOT-23, .115 x .063 x .040 in Body, 5 Lead, .0375 in Pitch; Supplier 1: Digi-Key; Supplier Part Number 1: LP3470IM5-3.08TR-ND; Supplier 2: Digi-Key; Supplier Part Number 2: LP3470IM5-3.08CT-ND; Supplier 3: Digi-Key; Supplier Part Number 3: LP3470IM5-3.08DKR-ND; Supplier 4: Farnell; Supplier Part Number 4: 1685550; RoHS: Y; PinCount: 5; ComponentLink1Description: LP3470 Datasheet; ComponentLink1URL: http://www.national.com/ds/LP/LP3470.pdf; ComponentLink2Description: LP3470 Web Page; ComponentLink2URL: http://www.national.com/pf/LP/LP3470.html; ComponentLink3Description: MF05A Package Page; ComponentLink3URL: http://www.national.com/packaging/folders/mf05a.html
footprint MF05A_N (SOT23, 5-Leads, Body 2.9x1.6mm, Pitch 0.95mm, Lead Span 2.8mm, IPC Medium Density)
footprint MF05A_L (SOT23, 5-Leads, Body 2.9x1.6mm, Pitch 0.95mm, Lead Span 2.8mm, IPC High Density)
footprint MF05A_M (SOT23, 5-Leads, Body 2.9x1.6mm, Pitch 0.95mm, Lead Span 2.8mm, IPC Low Density)
pins: 1 SRT, 2 GND (power), 3 VCC1 (power), 4 VCC (power), 5 ~{RST} (oc)

## LP3470IM5-3.65
designator U?
Tiny Power On Reset Circuit, 5-pin SOT-23; PartNumber: LP3470IM5-3.65; Manufacturer: National Semiconductor; PackageTopMarking: D37C*XTT; PowerWise: N; CompType: MiscPower; Published: 4-Dec-2008; DatasheetVersion: Sep-2009; PackageVersion: revD, Aug-2008; PackageReference: MF05A; Publisher: Altium Limited; PackageDescription: Molded SOT-23, .115 x .063 x .040 in Body, 5 Lead, .0375 in Pitch; RoHS: N; PinCount: 5; ComponentLink1Description: LP3470 Datasheet; ComponentLink1URL: http://www.national.com/ds/LP/LP3470.pdf; ComponentLink2Description: LP3470 Web Page; ComponentLink2URL: http://www.national.com/pf/LP/LP3470.html; ComponentLink3Description: MF05A Package Page; ComponentLink3URL: http://www.national.com/packaging/folders/mf05a.html
footprint MF05A_N (SOT23, 5-Leads, Body 2.9x1.6mm, Pitch 0.95mm, Lead Span 2.8mm, IPC Medium Density)
footprint MF05A_L (SOT23, 5-Leads, Body 2.9x1.6mm, Pitch 0.95mm, Lead Span 2.8mm, IPC High Density)
footprint MF05A_M (SOT23, 5-Leads, Body 2.9x1.6mm, Pitch 0.95mm, Lead Span 2.8mm, IPC Low Density)
pins: 1 SRT, 2 GND (power), 3 VCC1 (power), 4 VCC (power), 5 ~{RST} (oc)

## LP3470IM5-3.65/NOPB
designator U?
Tiny Power On Reset Circuit, 5-pin SOT-23, Pb-Free; PartNumber: LP3470IM5-3.65/NOPB; Manufacturer: National Semiconductor; PackageTopMarking: D37C*XTT; PowerWise: N; CompType: MiscPower; Published: 1-Mar-2010; DatasheetVersion: Sep-2009; PackageVersion: revD, Aug-2008; PackageReference: MF05A; Publisher: Altium Limited; PackageDescription: Molded SOT-23, .115 x .063 x .040 in Body, 5 Lead, .0375 in Pitch; Supplier 1: Digi-Key; Supplier Part Number 1: LP3470IM5-3.65TR-ND; Supplier 2: Digi-Key; Supplier Part Number 2: LP3470IM5-3.65CT-ND; Supplier 3: Digi-Key; Supplier Part Number 3: LP3470IM5-3.65DKR-ND; RoHS: Y; PinCount: 5; ComponentLink1Description: LP3470 Datasheet; ComponentLink1URL: http://www.national.com/ds/LP/LP3470.pdf; ComponentLink2Description: LP3470 Web Page; ComponentLink2URL: http://www.national.com/pf/LP/LP3470.html; ComponentLink3Description: MF05A Package Page; ComponentLink3URL: http://www.national.com/packaging/folders/mf05a.html
footprint MF05A_N (SOT23, 5-Leads, Body 2.9x1.6mm, Pitch 0.95mm, Lead Span 2.8mm, IPC Medium Density)
footprint MF05A_L (SOT23, 5-Leads, Body 2.9x1.6mm, Pitch 0.95mm, Lead Span 2.8mm, IPC High Density)
footprint MF05A_M (SOT23, 5-Leads, Body 2.9x1.6mm, Pitch 0.95mm, Lead Span 2.8mm, IPC Low Density)
pins: 1 SRT, 2 GND (power), 3 VCC1 (power), 4 VCC (power), 5 ~{RST} (oc)

## LP3470IM5-4.00
designator U?
Tiny Power On Reset Circuit, 5-pin SOT-23; PartNumber: LP3470IM5-4.00; Manufacturer: National Semiconductor; PackageTopMarking: D29C*XTT; PowerWise: N; CompType: MiscPower; Published: 4-Dec-2008; DatasheetVersion: Sep-2009; PackageVersion: revD, Aug-2008; PackageReference: MF05A; Publisher: Altium Limited; PackageDescription: Molded SOT-23, .115 x .063 x .040 in Body, 5 Lead, .0375 in Pitch; RoHS: N; PinCount: 5; ComponentLink1Description: LP3470 Datasheet; ComponentLink1URL: http://www.national.com/ds/LP/LP3470.pdf; ComponentLink2Description: LP3470 Web Page; ComponentLink2URL: http://www.national.com/pf/LP/LP3470.html; ComponentLink3Description: MF05A Package Page; ComponentLink3URL: http://www.national.com/packaging/folders/mf05a.html
footprint MF05A_N (SOT23, 5-Leads, Body 2.9x1.6mm, Pitch 0.95mm, Lead Span 2.8mm, IPC Medium Density)
footprint MF05A_L (SOT23, 5-Leads, Body 2.9x1.6mm, Pitch 0.95mm, Lead Span 2.8mm, IPC High Density)
footprint MF05A_M (SOT23, 5-Leads, Body 2.9x1.6mm, Pitch 0.95mm, Lead Span 2.8mm, IPC Low Density)
pins: 1 SRT, 2 GND (power), 3 VCC1 (power), 4 VCC (power), 5 ~{RST} (oc)

## LP3470IM5-4.00/NOPB
designator U?
Tiny Power On Reset Circuit, 5-pin SOT-23, Pb-Free; PartNumber: LP3470IM5-4.00/NOPB; Manufacturer: National Semiconductor; PackageTopMarking: D29C*XTT; PowerWise: N; CompType: MiscPower; Published: 1-Mar-2010; DatasheetVersion: Sep-2009; PackageVersion: revD, Aug-2008; PackageReference: MF05A; Publisher: Altium Limited; PackageDescription: Molded SOT-23, .115 x .063 x .040 in Body, 5 Lead, .0375 in Pitch; Supplier 1: Digi-Key; Supplier Part Number 1: LP3470IM5-4.00TR-ND; Supplier 2: Digi-Key; Supplier Part Number 2: LP3470IM5-4.00CT-ND; Supplier 3: Digi-Key; Supplier Part Number 3: LP3470IM5-4.00DKR-ND; Supplier 4: Farnell; Supplier Part Number 4: 1694565; RoHS: Y; PinCount: 5; ComponentLink1Description: LP3470 Datasheet; ComponentLink1URL: http://www.national.com/ds/LP/LP3470.pdf; ComponentLink2Description: LP3470 Web Page; ComponentLink2URL: http://www.national.com/pf/LP/LP3470.html; ComponentLink3Description: MF05A Package Page; ComponentLink3URL: http://www.national.com/packaging/folders/mf05a.html
footprint MF05A_N (SOT23, 5-Leads, Body 2.9x1.6mm, Pitch 0.95mm, Lead Span 2.8mm, IPC Medium Density)
footprint MF05A_L (SOT23, 5-Leads, Body 2.9x1.6mm, Pitch 0.95mm, Lead Span 2.8mm, IPC High Density)
footprint MF05A_M (SOT23, 5-Leads, Body 2.9x1.6mm, Pitch 0.95mm, Lead Span 2.8mm, IPC Low Density)
pins: 1 SRT, 2 GND (power), 3 VCC1 (power), 4 VCC (power), 5 ~{RST} (oc)

## LP3470IM5-4.8
designator U?
Tiny Power On Reset Circuit, 5-pin SOT-23; PartNumber: LP3470IM5-4.8; Manufacturer: National Semiconductor; PackageTopMarking: D15C*XTT; PowerWise: N; CompType: MiscPower; Published: 4-Dec-2008; DatasheetVersion: Sep-2009; PackageVersion: revD, Aug-2008; PackageReference: MF05A; Publisher: Altium Limited; PackageDescription: Molded SOT-23, .115 x .063 x .040 in Body, 5 Lead, .0375 in Pitch; RoHS: N; PinCount: 5; ComponentLink1Description: LP3470 Datasheet; ComponentLink1URL: http://www.national.com/ds/LP/LP3470.pdf; ComponentLink2Description: LP3470 Web Page; ComponentLink2URL: http://www.national.com/pf/LP/LP3470.html; ComponentLink3Description: MF05A Package Page; ComponentLink3URL: http://www.national.com/packaging/folders/mf05a.html
footprint MF05A_N (SOT23, 5-Leads, Body 2.9x1.6mm, Pitch 0.95mm, Lead Span 2.8mm, IPC Medium Density)
footprint MF05A_L (SOT23, 5-Leads, Body 2.9x1.6mm, Pitch 0.95mm, Lead Span 2.8mm, IPC High Density)
footprint MF05A_M (SOT23, 5-Leads, Body 2.9x1.6mm, Pitch 0.95mm, Lead Span 2.8mm, IPC Low Density)
pins: 1 SRT, 2 GND (power), 3 VCC1 (power), 4 VCC (power), 5 ~{RST} (oc)

## LP3470IM5-4.8/NOPB
designator U?
Tiny Power On Reset Circuit, 5-pin SOT-23, Pb-Free; PartNumber: LP3470IM5-4.8/NOPB; Manufacturer: National Semiconductor; PackageTopMarking: D15C*XTT; PowerWise: N; CompType: MiscPower; Published: 1-Mar-2010; DatasheetVersion: Sep-2009; PackageVersion: revD, Aug-2008; PackageReference: MF05A; Publisher: Altium Limited; PackageDescription: Molded SOT-23, .115 x .063 x .040 in Body, 5 Lead, .0375 in Pitch; Supplier 1: Digi-Key; Supplier Part Number 1: LP3470IM5-4.8-ND; RoHS: Y; PinCount: 5; ComponentLink1Description: LP3470 Datasheet; ComponentLink1URL: http://www.national.com/ds/LP/LP3470.pdf; ComponentLink2Description: LP3470 Web Page; ComponentLink2URL: http://www.national.com/pf/LP/LP3470.html; ComponentLink3Description: MF05A Package Page; ComponentLink3URL: http://www.national.com/packaging/folders/mf05a.html
footprint MF05A_N (SOT23, 5-Leads, Body 2.9x1.6mm, Pitch 0.95mm, Lead Span 2.8mm, IPC Medium Density)
footprint MF05A_L (SOT23, 5-Leads, Body 2.9x1.6mm, Pitch 0.95mm, Lead Span 2.8mm, IPC High Density)
footprint MF05A_M (SOT23, 5-Leads, Body 2.9x1.6mm, Pitch 0.95mm, Lead Span 2.8mm, IPC Low Density)
pins: 1 SRT, 2 GND (power), 3 VCC1 (power), 4 VCC (power), 5 ~{RST} (oc)

## LP3470IM5-4.38
designator U?
Tiny Power On Reset Circuit, 5-pin SOT-23; PartNumber: LP3470IM5-4.38; Manufacturer: National Semiconductor; PackageTopMarking: D30C*XTT; PowerWise: N; CompType: MiscPower; Published: 4-Dec-2008; DatasheetVersion: Sep-2009; PackageVersion: revD, Aug-2008; PackageReference: MF05A; Publisher: Altium Limited; PackageDescription: Molded SOT-23, .115 x .063 x .040 in Body, 5 Lead, .0375 in Pitch; Supplier 1: Digi-Key; Supplier Part Number 1: LP3470IM5-4.38-ND; RoHS: N; PinCount: 5; ComponentLink1Description: LP3470 Datasheet; ComponentLink1URL: http://www.national.com/ds/LP/LP3470.pdf; ComponentLink2Description: LP3470 Web Page; ComponentLink2URL: http://www.national.com/pf/LP/LP3470.html; ComponentLink3Description: MF05A Package Page; ComponentLink3URL: http://www.national.com/packaging/folders/mf05a.html
footprint MF05A_N (SOT23, 5-Leads, Body 2.9x1.6mm, Pitch 0.95mm, Lead Span 2.8mm, IPC Medium Density)
footprint MF05A_L (SOT23, 5-Leads, Body 2.9x1.6mm, Pitch 0.95mm, Lead Span 2.8mm, IPC High Density)
footprint MF05A_M (SOT23, 5-Leads, Body 2.9x1.6mm, Pitch 0.95mm, Lead Span 2.8mm, IPC Low Density)
pins: 1 SRT, 2 GND (power), 3 VCC1 (power), 4 VCC (power), 5 ~{RST} (oc)

## LP3470IM5-4.38/NOPB
designator U?
Tiny Power On Reset Circuit, 5-pin SOT-23, Pb-Free; PartNumber: LP3470IM5-4.38/NOPB; Manufacturer: National Semiconductor; PackageTopMarking: D30C*XTT; PowerWise: N; CompType: MiscPower; Published: 1-Mar-2010; DatasheetVersion: Sep-2009; PackageVersion: revD, Aug-2008; PackageReference: MF05A; Publisher: Altium Limited; PackageDescription: Molded SOT-23, .115 x .063 x .040 in Body, 5 Lead, .0375 in Pitch; Supplier 1: Digi-Key; Supplier Part Number 1: LP3470IM5-4.38/NOPBTR-ND; Supplier 2: Digi-Key; Supplier Part Number 2: LP3470IM5-4.38/NOPBCT-ND; Supplier 3: Digi-Key; Supplier Part Number 3: LP3470IM5-4.38/NOPBDKR-ND; RoHS: Y; PinCount: 5; ComponentLink1Description: LP3470 Datasheet; ComponentLink1URL: http://www.national.com/ds/LP/LP3470.pdf; ComponentLink2Description: LP3470 Web Page; ComponentLink2URL: http://www.national.com/pf/LP/LP3470.html; ComponentLink3Description: MF05A Package Page; ComponentLink3URL: http://www.national.com/packaging/folders/mf05a.html
footprint MF05A_N (SOT23, 5-Leads, Body 2.9x1.6mm, Pitch 0.95mm, Lead Span 2.8mm, IPC Medium Density)
footprint MF05A_L (SOT23, 5-Leads, Body 2.9x1.6mm, Pitch 0.95mm, Lead Span 2.8mm, IPC High Density)
footprint MF05A_M (SOT23, 5-Leads, Body 2.9x1.6mm, Pitch 0.95mm, Lead Span 2.8mm, IPC Low Density)
pins: 1 SRT, 2 GND (power), 3 VCC1 (power), 4 VCC (power), 5 ~{RST} (oc)

## LP3470IM5-4.63
designator U?
Tiny Power On Reset Circuit, 5-pin SOT-23; PartNumber: LP3470IM5-4.63; Manufacturer: National Semiconductor; PackageTopMarking: D31C*XTT; PowerWise: N; CompType: MiscPower; Published: 4-Dec-2008; DatasheetVersion: Sep-2009; PackageVersion: revD, Aug-2008; PackageReference: MF05A; Publisher: Altium Limited; PackageDescription: Molded SOT-23, .115 x .063 x .040 in Body, 5 Lead, .0375 in Pitch; Supplier 1: Farnell; Supplier Part Number 1: 7593326; RoHS: N; PinCount: 5; ComponentLink1Description: LP3470 Datasheet; ComponentLink1URL: http://www.national.com/ds/LP/LP3470.pdf; ComponentLink2Description: LP3470 Web Page; ComponentLink2URL: http://www.national.com/pf/LP/LP3470.html; ComponentLink3Description: MF05A Package Page; ComponentLink3URL: http://www.national.com/packaging/folders/mf05a.html
footprint MF05A_N (SOT23, 5-Leads, Body 2.9x1.6mm, Pitch 0.95mm, Lead Span 2.8mm, IPC Medium Density)
footprint MF05A_L (SOT23, 5-Leads, Body 2.9x1.6mm, Pitch 0.95mm, Lead Span 2.8mm, IPC High Density)
footprint MF05A_M (SOT23, 5-Leads, Body 2.9x1.6mm, Pitch 0.95mm, Lead Span 2.8mm, IPC Low Density)
pins: 1 SRT, 2 GND (power), 3 VCC1 (power), 4 VCC (power), 5 ~{RST} (oc)

## LP3470IM5-4.63/NOPB
designator U?
Tiny Power On Reset Circuit, 5-pin SOT-23, Pb-Free; PartNumber: LP3470IM5-4.63/NOPB; Manufacturer: National Semiconductor; PackageTopMarking: D31C*XTT; PowerWise: N; CompType: MiscPower; Published: 1-Mar-2010; DatasheetVersion: Sep-2009; PackageVersion: revD, Aug-2008; PackageReference: MF05A; Publisher: Altium Limited; PackageDescription: Molded SOT-23, .115 x .063 x .040 in Body, 5 Lead, .0375 in Pitch; Supplier 1: Digi-Key; Supplier Part Number 1: LP3470IM5-4.63TR-ND; Supplier 2: Digi-Key; Supplier Part Number 2: LP3470IM5-4.63CT-ND; Supplier 3: Digi-Key; Supplier Part Number 3: LP3470IM5-4.63DKR-ND; Supplier 4: Farnell; Supplier Part Number 4: 1694566; RoHS: Y; PinCount: 5; ComponentLink1Description: LP3470 Datasheet; ComponentLink1URL: http://www.national.com/ds/LP/LP3470.pdf; ComponentLink2Description: LP3470 Web Page; ComponentLink2URL: http://www.national.com/pf/LP/LP3470.html; ComponentLink3Description: MF05A Package Page; ComponentLink3URL: http://www.national.com/packaging/folders/mf05a.html
footprint MF05A_N (SOT23, 5-Leads, Body 2.9x1.6mm, Pitch 0.95mm, Lead Span 2.8mm, IPC Medium Density)
footprint MF05A_L (SOT23, 5-Leads, Body 2.9x1.6mm, Pitch 0.95mm, Lead Span 2.8mm, IPC High Density)
footprint MF05A_M (SOT23, 5-Leads, Body 2.9x1.6mm, Pitch 0.95mm, Lead Span 2.8mm, IPC Low Density)
pins: 1 SRT, 2 GND (power), 3 VCC1 (power), 4 VCC (power), 5 ~{RST} (oc)